# Altium schematic symbol library Texas Instruments.SchLib: 6 symbols
Pins are listed as number, name and electrical type; pins without a type are passive.

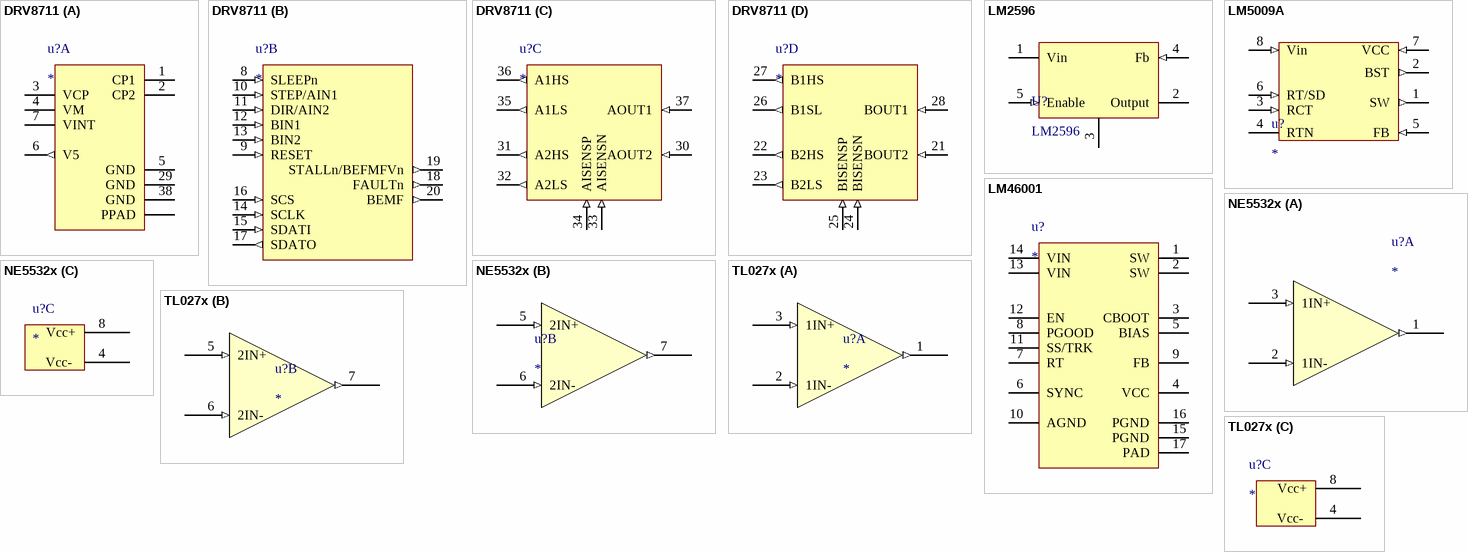
[diagram p0: symbols DRV8711 to TL027x]

## DRV8711
designator u?
HTSSOP38 - DCP PowerPAD
footprint R-PDSO-G38
part A pins: 1 CP1 (power), 2 CP2 (power), 3 VCP (power), 4 VM (power), 5 GND (power), 6 V5 (out), 7 VINT (power), 29 GND (power), 38 GND (power), 39 PPAD (power)
part B pins: 8 SLEEPn (in), 9 RESET (in), 10 STEP/AIN1 (in), 11 DIR/AIN2 (in), 12 BIN1 (in), 13 BIN2 (in), 14 SCLK (in), 15 SDATI (in), 16 SCS (in), 17 SDATO (out), 18 FAULTn (out), 19 STALLn/BEFMFVn (out), 20 BEMF (out)
part C pins: 30 AOUT2 (in), 31 A2HS (out), 32 A2LS (out), 33 AISENSN (in), 34 AISENSP (in), 35 A1LS (out), 36 A1HS (out), 37 AOUT1 (in)
part D pins: 21 BOUT2 (in), 22 B2HS (out), 23 B2LS (out), 24 BISENSN (in), 25 BISENSP (in), 26 B1SL (out), 27 B1HS (out), 28 BOUT1 (in)

## LM2596
designator U?
LM2596 Switching Power Convertor - 3A Step Down Voltage Regulator
footprint TO-263-5 (KTT Package TO-263)
pins: 1 Vin (power) "Power Input", 2 Output (power) "Power Output", 3 GND (power) "Ground", 4 Fb (in) "Feedback", 5 Enable (in) "Power Input", 6 (power) hidden to GND "Power Input"

## LM5009A
designator u?
100-V 150-mA Constant On-Time Buck Switching Regulator
footprint S-PDSO-G8-P127d310x505 (TI SOIC8 package, 127 Pitch, 310x505 Dimensions)
footprint WSON-8_4x4mm
pins: 1 SW (out) "Switching Node, Voltage output", 2 BST (out) "Boost Pin", 3 RCT (in) "Current Limit OFF Time Set Pin", 4 RTN (power) "Ground Pin", 5 FB (in) "Feedback input from Regulated output", 6 RT/SD (in) "On Time Set Pin", 7 VCC (in) "Output from the internal high voltage Pass Regulator", 8 Vin (in) "Input Voltage"

## LM46001
designator u?
footprint PWP0016G (PowerPAD TSSOP 16)
pins: 1 SW (power), 2 SW (power) hidden to SW, 2 SW (power), 3 CBOOT (power), 4 VCC (power), 5 BIAS (power), 6 SYNC, 7 RT, 8 PGOOD, 9 FB (power), 10 AGND (power), 11 SS/TRK, 12 EN, 13 VIN (power), 14 Vin (power) hidden to Vin, 14 VIN (power), 15 PGND (power), 16 PGND (power) hidden to PGND, 16 PGND (power), 17 PAD (power)

## NE5532x
designator u?
Dual Low-Noise OpAmp
footprint R-PDSO-G8-P127d620x530 (TI SOIC8 package, 127 Pitch, 620x530 Dimensions)
part A pins: 1 1OUT (out) "Output 1", 2 1IN- (in) "Inverted Input 1", 3 1IN+ (in) "Non-Inverted Input 1"
part B pins: 5 2IN+ (in) "Non Inverted Input 2", 6 2IN- (in) "Inverted Input 2", 7 2OUT (out) "Output 2"
part C pins: 4 Vcc-  (power) "Negative Supply", 8 Vcc+ (power) "Negative Supply"

## TL027x
designator u?
Low-Noise JFET-input OpAmp
footprint R-PDSO-G8-P127d620x530 (TI SOIC8 package, 127 Pitch, 620x530 Dimensions)
part A pins: 1 1OUT (out) "Output 1", 2 1IN- (in) "Inverted Input 1", 3 1IN+ (in) "Non-Inverted Input 1"
part B pins: 5 2IN+ (in) "Non-Inverted Input 2", 6 2IN- (in) "Inverted Input 2", 7 2OUT (out) "Output 2"
part C pins: 4 Vcc-  (power) "Negative Supply", 8 Vcc+ (power) "Negative Supply"